# Altium footprint library MY-I.MX6-PCB_Library.PcbLib: 53 footprints (part 3 of 4)
Each footprint in its own frame and in the unit in brackets; x right, y up, seen from the top. Pads: shape width x height; smd on the part's side, far side on the other; paste and mask are expansions set on the pad; w line width, h text height; cw(c..) or ccw(c..) is an arc to the next point about the centre after c.
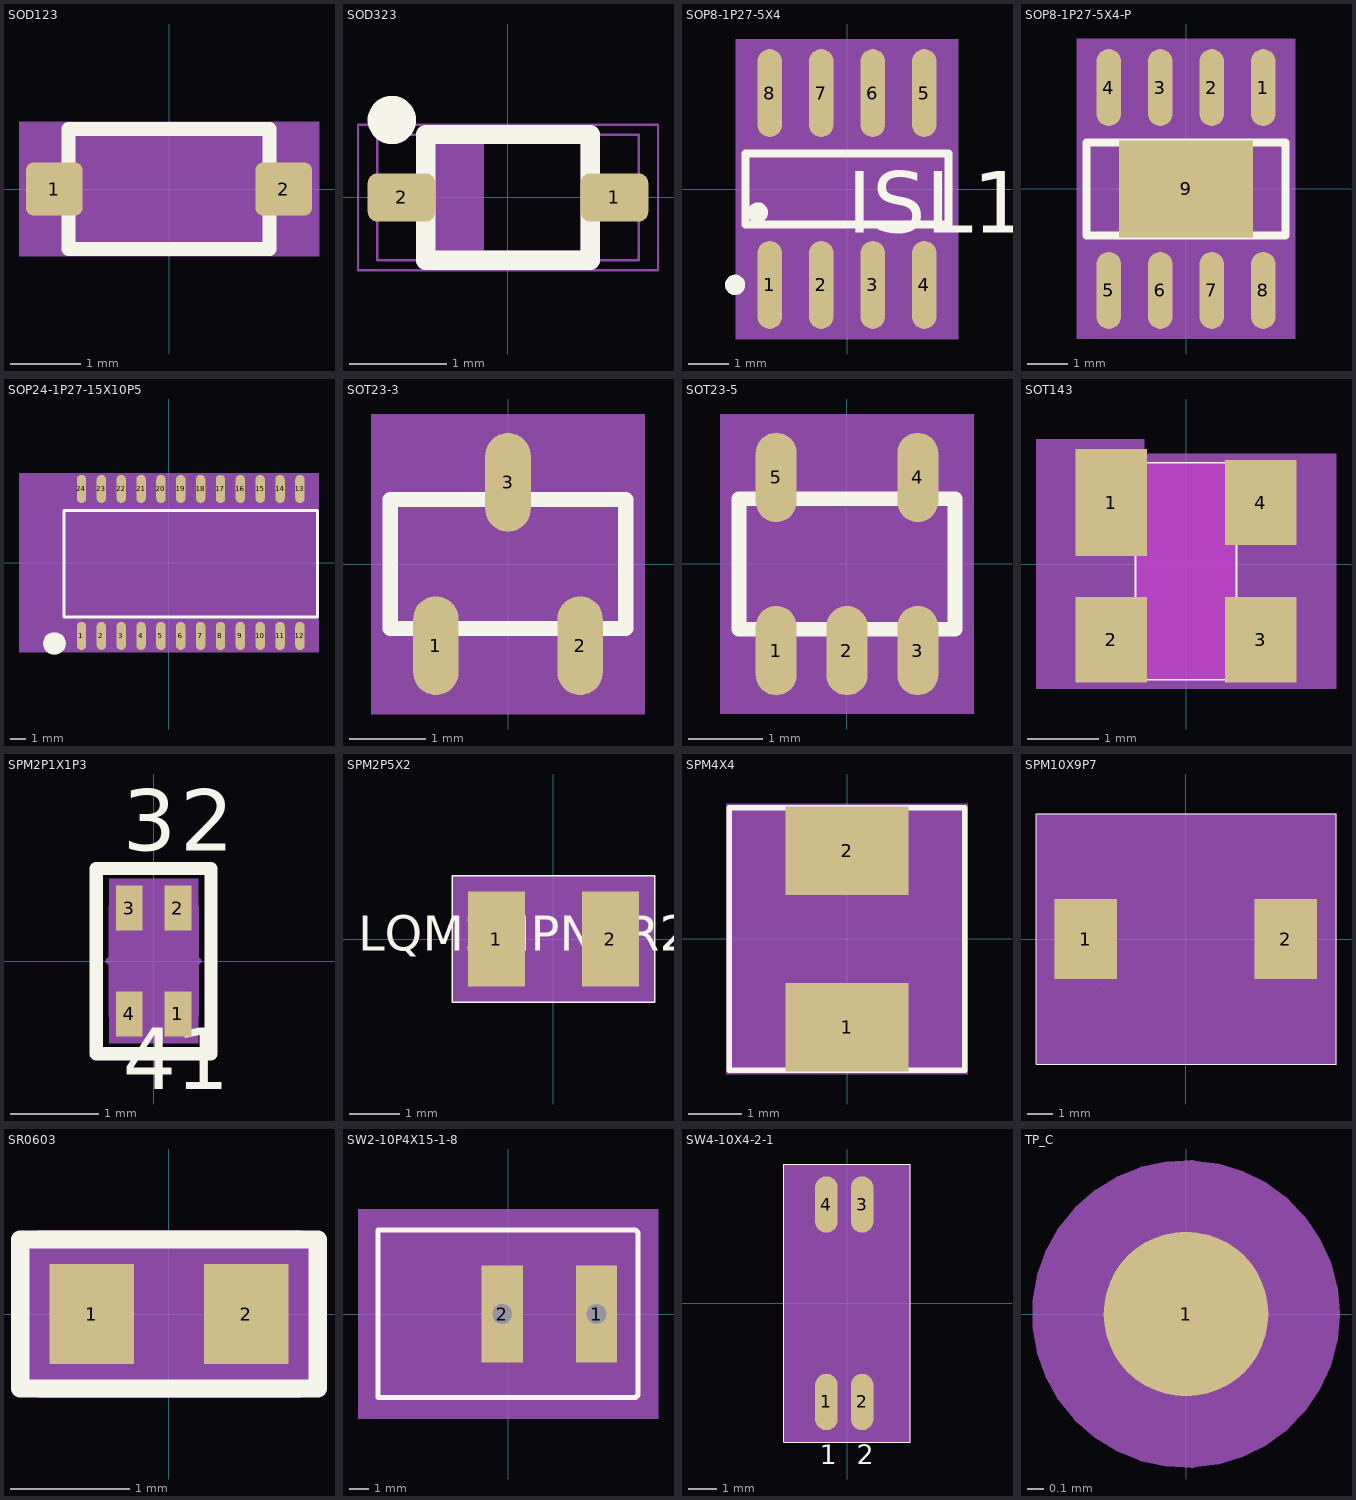
[diagram p2: the footprints below, top view; thin cyan lines are the x and y axes]

## SOD123 [mm] "SOD123"
pads (2):
  rrect27% 0.8x0.75 smd: 1(-1.625,0) 2(1.625,0)
Top Overlay:
  lines w0.2: -1.425,-0.85 1.425,-0.85 1.425,0.85 -1.425,0.85 -1.425,-0.85
  text ".Designator" at -2.316,0.393 h0.7
Top Courtyard:
  dashed: -1.925,-0.85 1.925,-0.85 1.925,0.85 -1.925,0.85
Top 3D Body:
  region: -2.125,-0.95 2.125,-0.95 2.125,0.95 -2.125,0.95
Mechanical 16:
  text "2" at 1.807,-0.2 h0.45
  text "1" at -1.443,-0.2 h0.45
Top Assembly:
  lines w0.2: -1.325,-0.85 -1.325,0.85 ; -1.225,-0.85 -1.225,0.85 ; -1.125,-0.85 -1.125,0.85 ; -1.025,-0.85 -1.025,0.85 ; -0.925,-0.85 -0.925,0.85 ; -1.925,-0.225 -1.525,-0.225 -1.525,0.225 -1.925,0.225 -1.925,-0.225 ; -1.425,-0.85 1.425,-0.85 1.425,0.85 -1.425,0.85 -1.425,-0.85 ; 1.525,-0.225 1.925,-0.225 1.925,0.225 1.525,0.225 1.525,-0.225
  text "RichardLC" at 1.634,-0.2 h0.45
  text "MBR0520LT1G(NC)" at 3.81,-0.212 h0.64
3D body: height 3.81, standoff 0, extent -2.125,-0.95 2.125,0.95

## SOD323 [mm] "SOD323"
pads (2):
  rrect40% 0.7x0.5 smd: 1(1.1,0) 2(-1.1,0)
Top Overlay:
  circle w0.25: c-1.2,0.8 r0.125
  lines w0.2: -0.85,-0.65 0.85,-0.65 0.85,0.65 -0.85,0.65 -0.85,-0.65
  text ".Designator" at 0.994,4.125 h0.7
Top Courtyard:
  lines w0.025: -1.35,-0.65 1.35,-0.65 1.35,0.65 -1.35,0.65 -1.35,-0.65
Top 3D Body:
  lines w0.025: -1.55,-0.75 1.55,-0.75 1.55,0.75 -1.55,0.75 -1.55,-0.75
Mechanical 16:
  text "2" at -1.282,-0.2 h0.45
  text "1" at 0.918,-0.2 h0.45
Top Assembly:
  lines w0.2: -0.75,-0.65 -0.75,0.65 ; -0.65,-0.65 -0.65,0.65 ; -0.55,-0.65 -0.55,0.65 ; -0.45,-0.65 -0.45,0.65 ; -0.35,-0.65 -0.35,0.65 ; -1.15,-0.075 -0.95,-0.075 -0.95,0.075 -1.15,0.075 -1.15,-0.075 ; -0.85,-0.65 0.85,-0.65 0.85,0.65 -0.85,0.65 -0.85,-0.65 ; 0.95,-0.075 1.15,-0.075 1.15,0.075 0.95,0.075 0.95,-0.075
  text "RichardLC" at -1.634,-0.2 h0.45
  text "BAT54HT1" at -2.032,-0.212 h0.64

## SOP8-1P27-5X4 [mm] "SOP8-1P27-5X4"
pads (8):
  oval 0.61x2.17 smd: 1(-1.905,-2.365) 2(-0.635,-2.365) 3(0.635,-2.365) 4(1.905,-2.365) 5(1.905,2.365) 6(0.635,2.365) 7(-0.635,2.365) 8(-1.905,2.365)
Top Overlay:
  circle w0.25: c-2.76,-2.365 r0.125
  circle w0.25: c-2.2,-0.58 r0.125
  lines w0.2: -2.5,-0.88 2.5,-0.88 2.5,0.88 -2.5,0.88 -2.5,-0.88
  text "ISL1208" at 0,-1.083 h1.52
  text ".Designator" at -4.058,-1.646 h0.7
Top Courtyard:
  dashed: -2.16,-3.1 -2.16,-2 -2.5,-2 -2.5,2 -2.16,2 -2.16,3.1 2.16,3.1 2.16,2 2.5,2 2.5,-2 2.16,-2 2.16,-3.1
Top 3D Body:
  region: -2.75,-3.7 2.75,-3.7 2.75,3.7 -2.75,3.7
Top Component Center:
  circle w0.025: c0,0 r0.5
  lines w0.025: -1,0 1,0 ; 0,-1 0,1
Mechanical 16:
  text "2" at -0.635,-2.183 h0.45
  text "3" at 0.635,-2.183 h0.45
  text "1" at -1.905,-2.183 h0.45
  text "7" at -0.635,2.547 h0.45
  text "5" at 1.905,2.547 h0.45
  text "6" at 0.635,2.547 h0.45
  text "8" at -1.905,2.547 h0.45
  text "4" at 1.905,-2.183 h0.45
Top Assembly:
  circle w0.4: c-2,-1.5 r0.2
  lines w0.2: -1.905,-2 -1.905,-1.73 ; -1.905,1.73 -1.905,2 ; -0.635,-2 -0.635,-1.73 ; -0.635,1.73 -0.635,2 ; 0.635,-2 0.635,-1.73 ; 0.635,1.73 0.635,2 ; 1.905,-2 1.905,-1.73 ; 1.905,1.73 1.905,2 ; -2.5,-2 2.5,-2 2.5,2 -2.5,2 -2.5,-2
  lines w0.51: -1.905,-3 -1.905,-1.73 ; -1.905,1.73 -1.905,3 ; -0.635,-3 -0.635,-1.73 ; -0.635,1.73 -0.635,3 ; 0.635,-3 0.635,-1.73 ; 0.635,1.73 0.635,3 ; 1.905,-3 1.905,-1.73 ; 1.905,1.73 1.905,3
  text "ISL1208" at 0,1.071 h0.45
  text "RichardLC" at 0,1.434 h0.45
  text "pn" at 0,0.163 h0.45
Top Component Outline:
  circle w0.025: c0,0 r0.5
  lines w0.025: -1,0 1,0 ; 0,-1 0,1
3D body: height 3.81, standoff 0, extent -2.75,-3.7 2.75,3.7

## SOP8-1P27-5X4-P [mm] "SOP8-1P27-5X4-P"
pads (9):
  oval 0.61x1.9 smd: 1(1.905,2.5) 2(0.635,2.5) 3(-0.635,2.5) 4(-1.905,2.5) 5(-1.905,-2.5) 6(-0.635,-2.5) 7(0.635,-2.5) 8(1.905,-2.5)
  rect 3.3x2.4 smd: 9(0,0)
Top Overlay:
  lines w0.2: -2.45,-1.15 2.45,-1.15 2.45,1.15 -2.45,1.15 -2.45,-1.15
  text ".Designator" at 2.122,2.197 h0.7
Top Courtyard:
  dashed: 2.16,3 2.16,1.95 2.45,1.95 2.45,-1.95 2.16,-1.95 2.16,-3 -2.16,-3 -2.16,-1.95 -2.45,-1.95 -2.45,1.95 -2.16,1.95 -2.16,3
Top 3D Body:
  region: 2.7,3.7 2.7,-3.7 -2.7,-3.7 -2.7,3.7
Top Component Center:
  circle w0.025: c0,0 r0.5
  lines w0.025: -1,0 1,0 ; 0,-1 0,1
Mechanical 16:
  text "9" at -0.508,0 h0.64
  text "5" at -2.087,-2.5 h0.45
  text "2" at 0.453,2.5 h0.45
  text "7" at 0.453,-2.5 h0.45
  text "1" at 1.723,2.5 h0.45
  text "4" at -2.087,2.5 h0.45
  text "8" at 1.723,-2.5 h0.45
  text "6" at -0.817,-2.5 h0.45
  text "3" at -0.817,2.5 h0.45
Top Assembly:
  lines w0.2: -1.905,-2 -1.905,-1.95 ; -1.905,1.95 -1.905,2 ; -0.635,-2 -0.635,-1.95 ; -0.635,1.95 -0.635,2 ; 0.635,-2 0.635,-1.95 ; 0.635,1.95 0.635,2 ; 1.905,-2 1.905,-1.95 ; 1.905,1.95 1.905,2 ; -2.45,-1.95 2.45,-1.95 2.45,1.95 -2.45,1.95 -2.45,-1.95
  lines w0.51: -1.905,-3 -1.905,-2 ; -1.905,2 -1.905,3 ; -0.635,-3 -0.635,-2 ; -0.635,2 -0.635,3 ; 0.635,-3 0.635,-2 ; 0.635,2 0.635,3 ; 1.905,-3 1.905,-2 ; 1.905,2 1.905,3
  text "RT8070ZSP" at -2.286,0.212 h0.64
Top Component Outline:
  circle w0.025: c0,0 r0.5
  lines w0.025: -1,0 1,0 ; 0,-1 0,1
3D body: height 3.81, standoff 0, extent -2.7,-3.7 2.7,3.7

## SOP24-1P27-15X10P5 [mm] "SOP24-1P27-15X10P5"
pads (24):
  oval 0.6x1.8 smd: 1(-5.597,-4.673) 2(-4.327,-4.673) 3(-3.057,-4.673) 4(-1.787,-4.673) 5(-0.517,-4.673) 6(0.753,-4.673) 7(2.023,-4.673) 8(3.293,-4.673) 9(4.563,-4.673) 10(5.833,-4.673) 11(7.103,-4.673) 12(8.373,-4.673) 13(8.373,4.727) 14(7.103,4.727) 15(5.833,4.727) 16(4.563,4.727) 17(3.293,4.727) 18(2.023,4.727) 19(0.753,4.727) 20(-0.517,4.727) 21(-1.787,4.727) 22(-3.057,4.727) 23(-4.327,4.727) 24(-5.597,4.727)
Top Overlay:
  dashed: -8.051,-5.153 -8.026,-5.339 -7.954,-5.512 -7.84,-5.662 -7.691,-5.776 -7.518,-5.848 -7.331,-5.872 -7.145,-5.848 -6.972,-5.776 -6.822,-5.662 -6.708,-5.512 -6.636,-5.339 -6.612,-5.153 -6.636,-4.966 -6.708,-4.793 -6.822,-4.644 -6.972,-4.53 -7.145,-4.458 -7.331,-4.433 -7.518,-4.458 -7.691,-4.53 -7.84,-4.644 -7.954,-4.793 -8.026,-4.966
  lines w0.2: -6.717,-3.453 9.493,-3.453 9.493,3.347 -6.717,3.347 -6.717,-3.453
Top 3D Body:
  region: -9.593,-5.727 9.593,-5.727 9.593,5.727 -9.593,5.727
Mechanical 16:
  text "17" at 4.309,4.727 h0.64
  text "18" at 3.039,4.727 h0.64
  text "20" at 0.499,4.727 h0.64
  text "19" at 1.769,4.727 h0.64
  text "13" at 9.389,4.727 h0.64
  text "12" at 9.389,-4.673 h0.64
  text "21" at -0.771,4.727 h0.64
  text "22" at -2.041,4.727 h0.64
  text "3" at -2.549,-4.673 h0.64
  text "4" at -1.279,-4.673 h0.64
  text "5" at -0.009,-4.673 h0.64
  text "6" at 1.261,-4.673 h0.64
  text "9" at 5.071,-4.673 h0.64
  text "8" at 3.801,-4.673 h0.64
  text "7" at 2.531,-4.673 h0.64
  text "2" at -3.819,-4.673 h0.64
  text "1" at -5.089,-4.673 h0.64
  text "24" at -4.581,4.727 h0.64
  text "23" at -3.311,4.727 h0.64
  text "10" at 6.849,-4.673 h0.64
  text "15" at 6.849,4.727 h0.64
  text "14" at 8.119,4.727 h0.64
  text "16" at 5.579,4.727 h0.64
  text "11" at 8.119,-4.673 h0.64
Top Assembly:
  text "ZLG7290" at -5.244,-0.191 h0.64
  text ".Designator" at -5.478,1.614 h0.64
3D body: height 3.81, standoff 0, extent -9.593,-5.727 9.593,5.727

## SOT23-3 [mm] "SOT23-3"
pads (3):
  oval 0.6x1.3 smd: 1(-0.95,-1.075) 2(0.95,-1.075) 3(0,1.075)
Top Overlay:
  lines w0.2: -1.55,-0.85 -1.55,0.85 1.55,0.85 1.55,-0.85 -1.55,-0.85
  text ".Designator" at 2.892,-0.658 h0.7
Top Courtyard:
  dashed: -1.55,-1.5 1.55,-1.5 1.55,1.5 -1.55,1.5
Top 3D Body:
  region: -1.8,-1.975 1.8,-1.975 1.8,1.975 -1.8,1.975
Mechanical 16:
  text "1" at -0.95,-1.278 h0.51
  text "3" at 0,0.872 h0.51
  text "2" at 0.95,-1.278 h0.51
Top Assembly:
  lines w0.2: -1.55,-0.85 -1.55,0.85 1.55,0.85 1.55,-0.85 -1.55,-0.85
  text "MMBT3906LT1G" at 0,-3.26 h0.64
3D body: height 3.81, standoff 0, extent -1.8,-1.975 1.8,1.975

## SOT23-5 [mm] "SOT23-5"
pads (5):
  oval 0.55x1.2 smd: 1(-0.95,-1.163) 2(0,-1.163) 3(0.95,-1.163) 4(0.95,1.163) 5(-0.95,1.163)
Top Overlay:
  lines w0.2: -1.45,-0.875 -1.45,0.875 1.45,0.875 1.45,-0.875 -1.45,-0.875
  text ".Designator" at 2.225,-0.243 h0.7
Top Courtyard:
  dashed: -1.45,-1.425 1.45,-1.425 1.45,1.425 -1.45,1.425
Top 3D Body:
  region: -1.7,-2.013 1.7,-2.013 1.7,2.013 -1.7,2.013
Mechanical 16:
  text "2" at 0,-1.417 h0.64
  text "1" at -0.95,-1.417 h0.64
  text "3" at 0.95,-1.417 h0.64
  text "5" at -0.95,0.909 h0.64
  text "4" at 0.95,0.909 h0.64
Top Assembly:
  lines w0.2: -1.45,-0.875 -1.45,0.875 1.45,0.875 1.45,-0.875 -1.45,-0.875
  text "TPS62240DDCR" at 0,-3.26 h0.64
3D body: height 3.81, standoff 0, extent -1.7,-2.013 1.7,2.013

## SOT143 [mm] "SOT143"
pads (4):
  rect 1x1.5 smd: 1(-1.05,0.864)
  rect 1x1.2 smd: 2(-1.05,-1.067) 3(1.05,-1.067) 4(1.05,0.864)
Top Overlay:
  lines w0.025: -0.711,-1.626 0.711,-1.626 0.711,1.422 -0.711,1.422 -0.711,-1.626
  text ".Designator" at -1.96,-0.473 h0.7
Top 3D Body:
  region: -2.108,-1.753 -2.108,1.753 -0.584,1.753 -0.584,1.549 2.108,1.549 2.108,-1.753
Mechanical 16:
  text "1" at -0.335,0.595 h0.64
  text "4" at 1.733,0.536 h0.64
  text "2" at -0.397,-1.415 h0.64
  text "3" at 1.703,-1.415 h0.64
Multi-Layer keep-out:
  region: -0.711,-1.626 -0.711,1.422 0.711,1.422 0.711,-1.626
Top Assembly:
  lines w0.025: -0.711,-1.626 0.711,-1.626 0.711,1.422 -0.711,1.422 -0.711,-1.626
  text "CD143A-SR05" at 2.794,-0.313 h0.64
Top Component Outline:
  lines w0.025: -1.635,0.229 -0.365,0.229 -0.365,1.499 -1.635,1.499 -1.635,0.229
3D body: height 3.81, standoff 0, extent -2.108,-1.753 2.108,1.753

## SPM2P1X1P3 [mil] "SPM2P1X1P3"
pads (4):
  rect 12x20 smd: 1(10.83,-23.62) 2(10.83,23.62) 3(-10.83,23.62) 4(-10.83,-23.62)
Top Overlay:
  lines w5.91: -25.59,-41.34 -25.59,41.34 25.59,41.34 25.59,-41.34 -25.59,-41.34
  text ".Designator" at 39.31,15.42 h27.56
  text "1" at 9.84,-57.09 h27.56
  text "4" at -13.78,-57.09 h27.56
  text "2" at 11.81,49.21 h27.56
  text "3" at -13.78,49.21 h27.56
Top Courtyard:
  dashed: -19.83,-36.62 19.83,-36.62 19.83,36.62 -19.83,36.62
Top 3D Body:
  region: -19.83,-36.62 19.83,-36.62 19.83,36.62 -19.83,36.62
Top Component Center:
  lines w3: -20,0 20,0 ; 0,-20 0,20
Mechanical 16:
  text "2" at 10.83,27.62 h10
  text "4" at -10.83,-19.62 h10
  text "1" at 10.83,-19.62 h10
  text "3" at -10.83,27.62 h10
Top Assembly:
  lines w1: -19.69,-24.61 19.69,-24.61 19.69,24.61 -19.69,24.61 -19.69,-24.61
  text "DLM11SN900HY2L" at -18,-3.33 h10
3D body: height 150, standoff 0, extent -19.83,-36.62 19.83,36.62

## SPM2P5X2 [mil] "SPM2P5X2"
pads (2):
  rect 45x75 smd: 1(-45,0) 2(45,0)
Top Overlay:
  lines w1: -80,-50 80,-50 80,50 -80,50 -80,-50
  text "LQM2HPN2R2MJ0L" at -154.33,-9.33 h27.56
  text ".Designator" at 245.48,-3.52 h27.56
Top 3D Body:
  region: -80,-50 80,-50 80,50 -80,50
Top Component Center:
  circle w1: c0,0 r50
  lines w1: -50,0 50,0 ; 0,-50 0,50
Mechanical 16:
  text "2" at 45,0 h25
  text "1" at -65,0 h25
Top Assembly:
  lines w1: -50,-40 -50,40 50,40 50,-40 -50,-40
3D body: height 150, standoff 0, extent -80,-50 80,50

## SPM4X4 [mm] "SPM4X4"
pads (2):
  rect 2.3x1.65 smd: 1(0,-1.65) 2(0,1.65)
Top Overlay:
  lines w0.1: -2.2,-2.45 -2.2,2.45 2.2,2.45 2.2,-1.45 2.2,-2.45 -2.2,-2.45
  text ".Designator" at -3.35,2.343 h0.7
Top 3D Body:
  region: 2.25,2.525 2.25,-2.525 -2.25,-2.525 -2.25,2.525
Mechanical 16:
  text "1" at 0.762,-1.65 h0.64
  text "2" at 0.762,1.65 h0.64
Top Assembly:
  text "SPM4012T-2R2M" at 0.762,0.212 h0.64
3D body: height 3.81, standoff 0, extent -2.25,-2.525 2.25,2.525

## SPM10X9P7 [mm] "SPM10X9P7"
pads (2):
  rect 2.5x3.2 smd: 1(-4,0) 2(4,0)
Top Overlay:
  lines w0.025: -3.45,-1.818 -3.45,-1.801 ; -6,-5 -6,5 6,5 6,-5 -6,-5
  text ".Designator" at -6.951,4.967 h0.7
Top 3D Body:
  region: -6,-5 6,-5 6,5 -6,5
Mechanical 16:
  text "1" at -4,0.254 h0.64
  text "2" at 4,0.254 h0.64
Top Assembly:
  text "CLF10040T-100M" at -0.45,3.687 h0.7
3D body: height 3.81, standoff 0, extent -6,-5 6,5

## SR0603 [mil] "SR0603"
pads (2):
  rect 28x33 smd: 1(-25.59,0) 2(25.59,0)
Top Overlay:
  lines w6: -49.21,-24.61 -49.21,24.61 49.21,24.61 49.21,-24.61 40.35,-24.61 -49.21,-24.61
  text ".Designator" at 121.85,15.83 h27.56
Top Courtyard:
  dashed: -33.46,-17.72 33.46,-17.72 33.46,-16.54 39.61,-16.54 39.61,16.54 33.46,16.54 33.46,17.72 -33.46,17.72 -33.46,16.54 -39.61,16.54 -39.61,-16.54 -33.46,-16.54
Top 3D Body:
  region: -39.61,-16.54 -33.46,-16.54 -33.46,-17.72 33.46,-17.72 33.46,-16.54 39.61,-16.54 39.61,16.54 33.46,16.54 33.46,17.72 -33.46,17.72 -33.46,16.54 -39.61,16.54
Top Component Center:
  lines w1: -10,0 10,0 ; 0,-10 0,10
Mechanical 16:
  text "1" at -25.59,-10 h25
  text "2" at 25.59,-10 h25
Top Assembly:
  lines w6: -33.46,-17.72 -33.46,17.72 33.46,17.72 33.46,-17.72 -33.46,-17.72
  text "360K 1%" at -13,-3.33 h10
Mechanical 21:
  dashed: -43.46,-26.54 -49.61,-26.54 -49.61,26.54 -43.46,26.54 -43.46,27.72 43.46,27.72 43.46,26.54 49.61,26.54 49.61,-26.54 43.46,-26.54 43.46,-27.72 -43.46,-27.72
3D body: height 150, standoff 0, extent -39.61,-17.72 39.61,17.72

## SW2-10P4X15-1-8 [mm] "SW2-10P4X15-1-8"
pads (2):
  rect 2.1x4.91 hole 1: 1(4.5,0) 2(-0.3,0)
Top Overlay:
  lines w0.254: -6.6,-4.242 6.481,-4.242 6.608,-4.115 6.608,4.14 6.481,4.267 -6.6,4.267 -6.6,-4.242
Top 3D Body:
  region: -7.627,-5.327 7.627,-5.327 7.627,5.327 -7.627,5.327
  lines w0.254: -6.5,-4.2 6.5,-4.2 6.5,4.2 -6.5,4.2 -6.5,-4.2
Mechanical 16:
  text "2" at -0.3,-0.508 h0.64
  text "1" at 4.5,-0.508 h0.64
Top Assembly:
  lines w0.254: -7.5,-5.2 7.5,-5.2 7.5,5.2 -7.5,5.2 -7.5,-5.2
  text "CON2" at 0.05,-1.128 h0.64
  text ".Designator" at -0.99,-0.112 h0.64
3D body: height 3.81, standoff 0, extent -7.627,-5.327 7.627,5.327

## SW4-10X4-2-1 [mm] "SW4-10X4-2-1"
pads (4):
  oval 0.8x2 smd: 1(-0.732,-3.504) 2(0.538,-3.504) 3(0.538,3.495) 4(-0.732,3.495)
Top Overlay:
  lines w0.025: -2.238,-4.932 2.238,-4.932 2.238,4.932 -2.238,4.932 -2.238,-4.932
  text ".Designator" at -2.067,5.532 h0.7
  text "2" at 0.338,-5.704 h0.7
  text "1" at -0.962,-5.704 h0.7
Top 3D Body:
  region: -2.238,-4.932 2.238,-4.932 2.238,4.932 -2.238,4.932
Mechanical 16:
  text "1" at -0.986,-3.504 h0.64
  text "2" at 0.284,-3.504 h0.64
  text "4" at -0.986,3.495 h0.64
  text "3" at 0.284,3.495 h0.64
Top Assembly:
  text "DHN-02" at -1.536,-0.216 h0.64
3D body: height 3.81, standoff 0, extent -2.238,-4.932 2.238,4.932

## TP_C [mm] "TP_C"
pads (1):
  round 1.02 smd: 1(0,0)
Top Overlay:
  text ".Designator" at 0.909,0.183 h0.7
Top Courtyard:
  dashed: 0.928,0 0.897,-0.24 0.804,-0.464 0.656,-0.656 0.464,-0.804 0.24,-0.897 0,-0.928 -0.24,-0.897 -0.464,-0.804 -0.656,-0.656 -0.804,-0.464 -0.897,-0.24 -0.928,0 -0.897,0.24 -0.804,0.464 -0.656,0.656 -0.464,0.804 -0.24,0.897 0,0.928 0.24,0.897 0.464,0.804 0.656,0.656 0.804,0.464 0.897,0.24
Top 3D Body:
  region: 0.928,0 0.897,-0.24 0.804,-0.464 0.656,-0.656 0.464,-0.804 0.24,-0.897 0,-0.928 -0.24,-0.897 -0.464,-0.804 -0.656,-0.656 -0.804,-0.464 -0.897,-0.24 -0.928,0 -0.897,0.24 -0.804,0.464 -0.656,0.656 -0.464,0.804 -0.24,0.897 0,0.928 0.24,0.897 0.464,0.804 0.656,0.656 0.804,0.464 0.897,0.24
Mechanical 16:
  text "1" at -0.102,0 h0.25
Top Assembly:
  circle w0.076: c0,0 r0.914
  text "TEST POINT" at -1.816,0.151 h0.45
3D body: height 3.81, standoff 0, extent -0.928,-0.928 0.928,0.928